# EAGLE library part 2X7 (library pimoroni-headers)
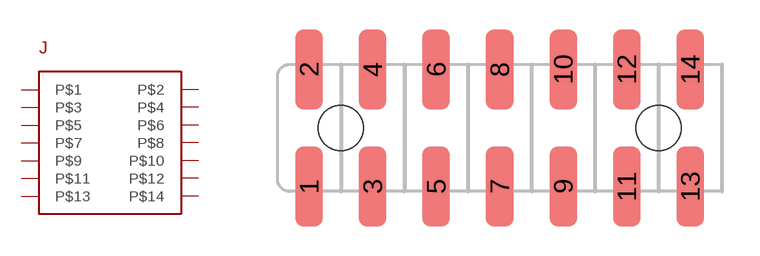
[diagram p20: symbol with the pads of 2X7-MALE-SMT; footprint 2X7-MALE-SMT]

Designator prefix J

## 2X7  [2X7-MALE-SMT]
1  P$1
2  P$2
3  P$3
4  P$4
5  P$5
6  P$6
7  P$7
8  P$8
9  P$9
10  P$10
11  P$11
12  P$12
13  P$13
14  P$14

## Footprint 2X7-MALE-SMT (pad centres in mm)
smd 1.1 x 3.2: 1 -7.62,-2.34; 2 -7.62,2.34; 3 -5.08,-2.34; 4 -5.08,2.34; 5 -2.54,-2.34; 6 -2.54,2.34; 7 0,-2.34; 8 0,2.34; 9 2.54,-2.34; 10 2.54,2.34; 11 5.08,-2.34; 12 5.08,2.34; 13 7.62,-2.34; 14 7.62,2.34
hole 1.8 at -6.35,0
hole 1.8 at 6.35,0